# Altium schematic symbol library HEIMDALL-DEVPICKIT-V2.1.SCHLIB: 18 symbols
Pins are listed as number, name and electrical type; pins without a type are passive.

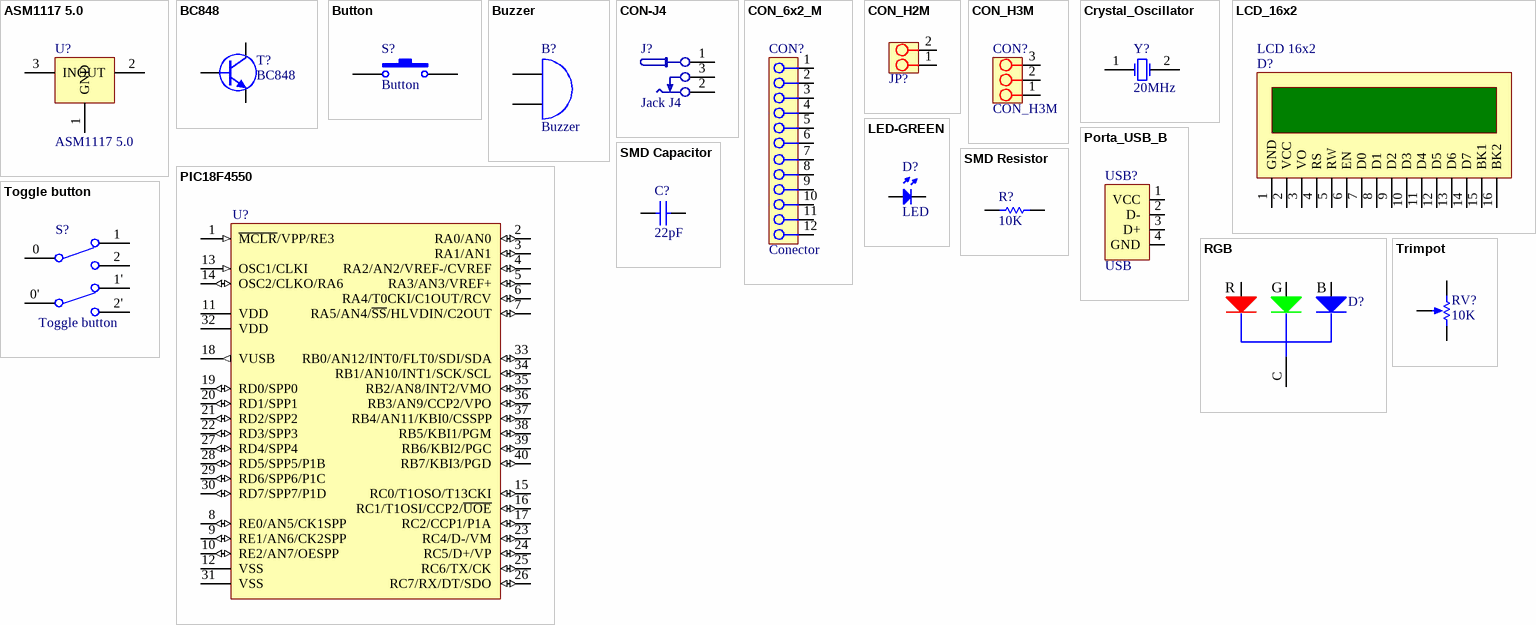
[diagram p0: symbols ASM1117 5.0 to Trimpot]

## ASM1117 5.0
designator U?
LOW DROPOUT VOLTAGE REGULATOR; ComponentLink1Description: ASM1117 5.0; ComponentLink1URL: https://pdf1.alldatasheet.com/datasheet-pdf/view/1137421/ARTSCHIP/AMS1117-1.5.html
footprint ASM1117 5.0
pins: 1 GND, 2 OUT, 3 IN

## BC848
designator T?
NPN Epitaxial Silicon Transistor.; Manufacturer: ON Semiconductor; Manufacturer Part Number: BC848BLT3G; Collector Emitter Voltage (VCEO): 30V; Max Power Dissipation: 300mW; Frequency: 100MHz; hFE Min: 200; Max Collector Current: 100mA; Emitter Base Voltage (VEBO): 5V; Collector Emitter Saturation Voltage: 600mV; Number of Elements: 1; Element Configuration: Single; Supplier 1: Digi-Key; Stock 1: 29910; Pricing 1: 1=0.12, 10=0.105, 100=0.0572, 500=0.0352, 1000=0.024 (USD); Case/Package: SOT-23-3; Number of Pins: 3; Min Operating Temperature: -55°C; Max Operating Temperature: 150°C; Package Quantity: 10000; Packaging: Tape and Reel; Transition Frequency: 100MHz; Collector Emitter Breakdown Voltage: 30V; Polarity: NPN; Collector Base Voltage (VCBO): 30V; Max Breakdown Voltage: 30V; Power Dissipation: 300mW; Gain Bandwidth Product: 100MHz; Voltage Rating (DC): 30V; Current Rating: 100mA; Radiation Hardening: No; Lead Free: Lead Free; Supplier Part Number 1: BC848BLT3GOSDKR-ND
footprint SOT-23
pins: 1 C, 2 B, 3 E

## Button
designator S?
Tactil Switch; Manufacturer: Panasonic; Manufacturer Part Number: EVQ-PAC07K; Mechanical Life: 100000Cycles; Max Current Rating: 20mA; Operating Force: 1N; Throw Configuration: SPST; Voltage Rating (DC): 15V; Contact Resistance: 50mR; Illumination Type: Non-Illuminated,Illuminated; Switch Travel: 0.25mm; Switch Function: Off-Mom; Actuator Length: 3.1mm; Size: 6x6x5mm; Supplier 1: Digi-Key; Stock 1: 36840; Pricing 1: 1=0.2, 10=0.196, 25=0.1896, 50=0.1828, 100=0.1726, 250=0.1625, 500=0.1557, 1000=0.1185, 5000=0.0982 (USD); Mount: Through Hole; Colour: Black; Contact Plating: Gold,Silver; Min Operating Temperature: -20°C; Max Operating Temperature: 70°C; Packaging: Bulk; Max Voltage Rating (DC): 15V; Current Rating: 20mA; Package Quantity: 500; Termination: PC Pins; Electrical Life: 100000Cycles; Contact Current Rating: 20mA; Orientation: Straight; Length: 6mm; Height: 7mm; Width: 6mm; Depth: 7.8mm; Radiation Hardening: No; REACH SVHC: Unknown; Lead Free: Lead Free; ComponentLink1URL: https://datasheet.ciiva.com/17027/70270700-17027701.pdf; ComponentLink1Description: https://datasheet.ciiva.com/17027/70270700-17027701.pdf; ComponentLink2URL: https://datasheet.ciiva.com/15184/getdatasheetpartid-174669-15184695.pdf; ComponentLink2Description: https://datasheet.ciiva.com/15184/getdatasheetpartid-174669-15184695.pdf; ComponentLink3URL: https://datasheet.ciiva.com/8166/atk0000ce10-8166344.pdf; ComponentLink3Description: https://datasheet.ciiva.com/8166/atk0000ce10-8166344.pdf; ComponentLink4URL: https://datasheet.ciiva.com/30262/36atk0000ce10-30262264.pdf; ComponentLink4Description: https://datasheet.ciiva.com/30262/36atk0000ce10-30262264.pdf; ComponentLink5URL: https://datasheet.ciiva.com/16695/atk0000ce10-16695929.pdf; ComponentLink5Description: https://datasheet.ciiva.com/16695/atk0000ce10-16695929.pdf; ComponentLink6URL: https://datasheet.ciiva.com/24076/atk0000ce10-33274-24076314.pdf; ComponentLink6Description: https://datasheet.ciiva.com/24076/atk0000ce10-33274-24076314.pdf; ComponentLink7URL: https://datasheet.ciiva.com/7645/atk0000ce10-7645644.pdf; ComponentLink7Description: https://datasheet.ciiva.com/7645/atk0000ce10-7645644.pdf; ComponentLink8URL: https://datasheet.ciiva.com/2899/atk0000ce10-2899661.pdf; ComponentLink8Description: https://datasheet.ciiva.com/2899/atk0000ce10-2899661.pdf; Supplier Part Number 1: P8011S-ND
footprint BUTTON
pins: 1, 2

## Buzzer
designator B?
Piezoeletric; Manufacturer: Projects Unlimited; Manufacturer Part Number: AT-1224-TWT-5V-2-R; Voltage Rating: 5V; Frequency: 2.4kHz; Operating Supply Current: 40mA; Sensing Method: Magnetic; Supplier 1: Digi-Key; Stock 1: 74074; Pricing 1: 1=0.6, 10=0.478, 25=0.436, 50=0.406, 100=0.38, 250=0.346, 500=0.324, 1000=0.302, 5000=0.256 (USD); Mount: Through Hole; Contact Plating: Tin; Min Operating Temperature: -30°C; Max Operating Temperature: 70°C; Packaging: Tray; Termination: PC Pins; Max Supply Current: 40mA; Diameter: 12mm; Height: 9mm; ComponentLink1URL: http://www.mouser.com/ds/2/334/AT-1224-TWT-5V-2-R-532234.pdf; ComponentLink1Description: http://www.mouser.com/ds/2/334/AT-1224-TWT-5V-2-R-532234.pdf; ComponentLink2URL: http://www.puiaudio.com/pdf/AT-1224-TWT-5V-2-R.pdf; ComponentLink2Description: http://www.puiaudio.com/pdf/AT-1224-TWT-5V-2-R.pdf; Supplier Part Number 1: 668-1470-ND
footprint Buzzer
pins: 1 A, 2 B

## CON-J4
designator J?, comment Jack J4
Conector DC Power Jack J4 2.5mm; Manufacturer: CUI; Manufacturer Part Number: PJ-102BH; Gender: Male; Shielding: Unshielded; Current Rating: 5A; Voltage Rating: 24V; Insulation Resistance: 100MR; Number of Conductors: 2; Supplier 1: Digi-Key; Stock 1: 16445; Pricing 1: 1=0.76, 10=0.708, 25=0.6372, 50=0.5664, 100=0.5428, 250=0.4956, 500=0.472, 1000=0.3894, 2500=0.354 (USD); Mount: Through Hole; Colour: Black; Contact Material: Copper; Contact Plating: Nickel; Housing Colour: Black; Housing Material: Thermoplastic; Min Operating Temperature: -25°C; Max Operating Temperature: 85°C; Package Quantity: 280; Termination: Through Hole; Connector Type: Jack; Contact Gender: Male; Orientation: Horizontal; Packaging: Bulk; Diameter: 2.5mm; Lead Free: Lead Free; Flammability Rating: UL94 V-0; ComponentLink1URL: http://www.mouser.com/ds/2/670/PJ-102BH-524153.pdf; ComponentLink1Description: http://www.mouser.com/ds/2/670/PJ-102BH-524153.pdf; ComponentLink2URL: http://www.cui.com/Product/Resource/FuturePDF/PJ-102BH.pdf; ComponentLink2Description: http://www.cui.com/Product/Resource/FuturePDF/PJ-102BH.pdf; ComponentLink3URL: http://www.cui.com/product/resource/digikeypdf/pj-102bh.pdf; ComponentLink3Description: http://www.cui.com/product/resource/digikeypdf/pj-102bh.pdf; Supplier Part Number 1: CP-102BH-ND
footprint J4
pins: 1, 2, 3

## CON_6x2_M
designator CON?, comment Conector
footprint CON_6x2_M
pins: 1, 2, 3, 4, 5, 6, 7, 8, 9, 10, 11, 12

## CON_H2M
designator JP?  (value not drawn)
Molex M 2T; Manufacturer: Harwin; Manufacturer Part Number: M20-9990246; Contact Resistance: 30mR; Max Current Rating: 3A; Number of Positions: 2; Gender: Male; Connector Type: Male Pin; Insulation Resistance: 10GR; Voltage Rating (AC): 750V; Pitch: 2.54mm; Supplier 1: Digi-Key; Stock 1: 53821; Pricing 1: 1=0.11, 10=0.099, 100=0.0609, 500=0.0504, 1000=0.0441, 5000=0.0378, 10000=0.0368 (USD); Mount: Through Hole; Case/Package: SIL; Colour: Black; Housing Colour: Black; Housing Material: Nylon; Contact Plating: Tin; Contact Material: Bronze,Brass; Min Operating Temperature: -40°C; Max Operating Temperature: 105°C; Package Quantity: 1000; Packaging: Bulk; Termination: Solder; Number of Rows: 1; Number of Contacts: 2; Orientation: Straight; Current Rating: 3A; Length: 5.08mm; Depth: 2.54mm; Contact Mating Length: 0.24inch; Radiation Hardening: No; REACH SVHC: No SVHC; ComponentLink1URL: https://datasheet.ciiva.com/8046/315376-8046930.pdf; ComponentLink1Description: https://datasheet.ciiva.com/8046/315376-8046930.pdf; ComponentLink2URL: https://datasheet.ciiva.com/6833/m20-999-6833368.pdf; ComponentLink2Description: https://datasheet.ciiva.com/6833/m20-999-6833368.pdf; ComponentLink3URL: https://datasheet.ciiva.com/11745/0900766b81034e61-11745755.pdf; ComponentLink3Description: https://datasheet.ciiva.com/11745/0900766b81034e61-11745755.pdf; ComponentLink4URL: https://datasheet.ciiva.com/22660/1830818-22660571.pdf; ComponentLink4Description: https://datasheet.ciiva.com/22660/1830818-22660571.pdf; ComponentLink5URL: https://datasheet.ciiva.com/26852/getdatasheetpartid-384170-26852203.pdf; ComponentLink5Description: https://datasheet.ciiva.com/26852/getdatasheetpartid-384170-26852203.pdf; Supplier Part Number 1: 952-2262-ND
footprint Header2-M
pins: 1, 2

## CON_H3M
designator CON?
Molex M 3T
footprint CON_3P_M
pins: 1, 2, 3

## Crystal_Oscillator
designator Y?, comment 20MHz
Quartz Crystal; Manufacturer: ECS International; Manufacturer Part Number: ECS-200-18-4XEN; Frequency Tolerance: 30ppm; Load Capacitance: 18pF; ESR (Equivalent Series Resistance): 30R; Frequency Stability: 50ppm; Supplier 1: Digi-Key; Stock 1: 3788; Pricing 1: 1=0.66, 10=0.55, 50=0.495, 100=0.44, 500=0.418, 1000=0.352, 2500=0.33, 5000=0.319, 10000=0.308 (USD); Mount: Through Hole; Min Operating Temperature: -40°C; Max Operating Temperature: 85°C; Package Quantity: 200; Frequency: 20MHz; Packaging: Bulk; Tolerance: 30ppm; Termination: Radial; Length: 0.447inch; Height: 0.138inch; Width: 0.183inch; ComponentLink1URL: https://datasheet.ciiva.com/853/hc-49usx-853271.pdf; ComponentLink1Description: https://datasheet.ciiva.com/853/hc-49usx-853271.pdf; Supplier Part Number 1: XC1723-ND
footprint CRYSTAL
pins: 1 OSC1, 2 OSC2

## LCD_16x2
designator D?, comment LCD 16x2
Liquid Crystal Display 16x2; Manufacturer: Lumex; Manufacturer Part Number: LCM-S01602DSR/A; Operating Supply Voltage: 5V; Interface: Parallel; Number of Characters: 32; Character Width: 2.96mm; Character Height: 5.56mm; Viewing Area (height): 16mm; Current Rating: 3mA; Viewing Area (width): 66mm; Background Colour: Green; Number Of Characters Per Row: 16; Supplier 1: Digi-Key; Stock 1: 2202; Pricing 1: 1=11.92, 10=11.417, 25=8.8796, 100=7.611, 250=7.2304, 500=6.8499, 1000=6.4694 (USD); Case/Package: Module; Weight: 0.0025lb; Min Operating Temperature: 0°C; Max Operating Temperature: 50°C; Package Quantity: 45; Packaging: Bulk; Voltage Rating: 5V; Length: 0.25inch; Height: 36mm; Width: 80mm; REACH SVHC: No SVHC; Lead Free: Lead Free; ComponentLink1URL: https://datasheet.ciiva.com/2102/lcm-s01602dsr+a-2102193.pdf; ComponentLink1Description: https://datasheet.ciiva.com/2102/lcm-s01602dsr+a-2102193.pdf; ComponentLink2URL: https://datasheet.ciiva.com/1314/710199-1314420.pdf; ComponentLink2Description: https://datasheet.ciiva.com/1314/710199-1314420.pdf; Supplier Part Number 1: 67-1768-ND
footprint LCD_16X2
footprint LCD_16X2_2
pins: 1 GND, 2 VCC, 3 VO, 4 RS, 5 RW, 6 EN, 7 D0, 8 D1, 9 D2, 10 D3, 11 D4, 12 D5, 13 D6, 14 D7, 15 BK1, 16 BK2

## LED-GREEN
designator D?, comment LED
Light Emissor Diode - 5mm; Manufacturer: Kingbright; Manufacturer Part Number: WP7113LGD; Colour: Green; Lens Style: Round,Diffused,Tinted; Luminous Intensity: 2mcd; Viewing Angle: 30°; Forward Voltage: 1.9V; Forward Current: 25mA; Dominant Wavelength: 568nm; Test Current: 2mA; Supplier 1: Digi-Key; Stock 1: 193634; Pricing 1: 1=0.48, 10=0.342, 25=0.2624, 100=0.171, 250=0.1254, 500=0.1064, 1000=0.0874, 2500=0.076, 5000=0.0684 (USD); Mount: Through Hole; Case/Package: Radial; Lens Colour: Green; Min Operating Temperature: -40°C; Max Operating Temperature: 85°C; Illumination Colour: Green; Packaging: Bulk; Package Quantity: 1000; Height: 8.6mm; Lead Free: Lead Free; ComponentLink1URL: https://datasheet.ciiva.com/16510/wp7113lgd-16510240.pdf; ComponentLink1Description: https://datasheet.ciiva.com/16510/wp7113lgd-16510240.pdf; ComponentLink2URL: https://datasheet.ciiva.com/4692/wp7113lgd-83708-4692822.pdf; ComponentLink2Description: https://datasheet.ciiva.com/4692/wp7113lgd-83708-4692822.pdf; ComponentLink3URL: https://datasheet.ciiva.com/14604/70062982-14604412.pdf; ComponentLink3Description: https://datasheet.ciiva.com/14604/70062982-14604412.pdf; ComponentLink4URL: https://datasheet.ciiva.com/2114/wp7113lgd-2114397.pdf; ComponentLink4Description: https://datasheet.ciiva.com/2114/wp7113lgd-2114397.pdf; Supplier Part Number 1: 754-1265-ND
footprint LED_GREEN
pins: A, K

## PIC18F4550
designator U?  (value not drawn)
High Performance, Enhanced Flash, USB Microcontroller with nanoWatt Technology, 32K Flash, 40-Pin PDIP, Industrial Temperature Range; Manufacturer: Microchip; Manufacturer Part Number: PIC18F4550-I/P; Interface: I2C,SPI,USB,UART,USART; Data Bus Width: 8b; Number of Bits: 8; Core Architecture: PIC; Max Power Dissipation: 1W; Number of I/Os: 35; Number of Timers/Counters: 4; RAM Size: 2KB; Max Supply Voltage: 5.5V; Min Supply Voltage: 4.2V; Number of ADC Channels: 13; Number of PWM Channels: 5; Frequency: 48MHz; Density: 32KB; Number of UART Channels: 1; Oscillator Type: Internal; Watchdog Timer: Yes; Nominal Supply Current: 1.1mA; Access Time: 48us; Peripherals: Brown-out Detect/Reset,POR,PWM,WDT,HLVD,I2C; Supplier 1: Digi-Key; Stock 1: 666; Pricing 1: 1=4.6, 25=4.4908, 100=4.3878 (USD); Mount: Through Hole; Case/Package: PDIP; Number of Pins: 40; Weight: 0.05lb; Min Operating Temperature: -40°C; Max Operating Temperature: 85°C; Package Quantity: 10; Packaging: Rail/Tube; Number of Programmable I/O: 35; Max Frequency: 48MHz; Number of SPI Channels: 1; Number of I2C Channels: 1; Memory Type: FLASH; Number of A/D Converters: 1; Address Bus Width: 8b; Memory Size: 32KB; Length: 53.21mm; Height: 0.195inch; Width: 0.58inch; Radiation Hardening: No; Lead Free: Lead Free; REACH SVHC: No SVHC; ComponentLink1URL: https://datasheet.ciiva.com/19471/2177678-19471492.pdf; ComponentLink1Description: https://datasheet.ciiva.com/19471/2177678-19471492.pdf; ComponentLink2URL: https://datasheet.ciiva.com/16362/filehandler-aspxddocname-en020587-16362390.pdf; ComponentLink2Description: https://datasheet.ciiva.com/16362/filehandler-aspxddocname-en020587-16362390.pdf; ComponentLink3URL: https://datasheet.ciiva.com/1494/39632e-1494503.pdf; ComponentLink3Description: https://datasheet.ciiva.com/1494/39632e-1494503.pdf; ComponentLink4URL: https://datasheet.ciiva.com/9244/39632d-9244680.pdf; ComponentLink4Description: https://datasheet.ciiva.com/9244/39632d-9244680.pdf; ComponentLink5URL: https://datasheet.ciiva.com/7181/720550-7181018.pdf; ComponentLink5Description: https://datasheet.ciiva.com/7181/720550-7181018.pdf; ComponentLink6URL: https://datasheet.ciiva.com/18404/70045698-18404428.pdf; ComponentLink6Description: https://datasheet.ciiva.com/18404/70045698-18404428.pdf; ComponentLink7URL: https://datasheet.ciiva.com/17992/pic18f4550-17992030.pdf; ComponentLink7Description: https://datasheet.ciiva.com/17992/pic18f4550-17992030.pdf; ComponentLink8URL: https://datasheet.ciiva.com/29330/651708-da-01-en-ic-pic-mcu-pic18f4550-i-p-dip-40-mcp-29330715.pdf; ComponentLink8Description: https://datasheet.ciiva.com/29330/651708-da-01-en-ic-pic-mcu-pic18f4550-i-p-dip-40-mcp-29330715.pdf; ComponentLink9URL: https://datasheet.ciiva.com/26816/pic18f4550-i-p-26816637.pdf; ComponentLink9Description: https://datasheet.ciiva.com/26816/pic18f4550-i-p-26816637.pdf; Supplier Part Number 1: PIC18F4550-I/P-ND
footprint DIP40
pins: 1 ~{MCLR}/VPP/RE3 (in), 2 RA0/AN0 (io), 3 RA1/AN1 (io), 4 RA2/AN2/VREF-/CVREF (io), 5 RA3/AN3/VREF+ (io), 6 RA4/T0CKI/C1OUT/RCV (io), 7 RA5/AN4/~{SS}/HLVDIN/C2OUT (io), 8 RE0/AN5/CK1SPP (io), 9 RE1/AN6/CK2SPP (io), 10 RE2/AN7/OESPP (io), 11 VDD (power), 12 VSS (power), 13 OSC1/CLKI (in), 14 OSC2/CLKO/RA6 (io), 15 RC0/T1OSO/T13CKI (io), 16 RC1/T1OSI/CCP2/~{UOE} (io), 17 RC2/CCP1/P1A (io), 18 VUSB (out), 19 RD0/SPP0 (io), 20 RD1/SPP1 (io), 21 RD2/SPP2 (io), 22 RD3/SPP3 (io), 23 RC4/D-/VM (io), 24 RC5/D+/VP (io), 25 RC6/TX/CK (io), 26 RC7/RX/DT/SDO (io), 27 RD4/SPP4 (io), 28 RD5/SPP5/P1B (io), 29 RD6/SPP6/P1C (io), 30 RD7/SPP7/P1D (io), 31 VSS (power), 32 VDD (power), 33 RB0/AN12/INT0/FLT0/SDI/SDA (io), 34 RB1/AN10/INT1/SCK/SCL (io), 35 RB2/AN8/INT2/VMO (io), 36 RB3/AN9/CCP2/VPO (io), 37 RB4/AN11/KBI0/CSSPP (io), 38 RB5/KBI1/PGM (io), 39 RB6/KBI2/PGC (io), 40 RB7/KBI3/PGD (io)

## Porta_USB_B
designator USB?, comment USB
Porta USB / tipo B femea
footprint Porta_USB_B
pins: 1 VCC, 2 D-, 3 D+, 4 GND

## RGB
designator D?, comment Led RGB  (value not drawn)
Led RGB 4 pin Cathode Commom
footprint RGB-5mm
pins: B, C, G, R

## SMD Capacitor
designator C?, comment 22pF
Multilayer Ceramic / Capacitor 0805; ComponentLink1Description: Multilayer Ceramic; ComponentLink1URL: https://eu.mouser.com/datasheet/2/212/KEM_C1062_C0G_FT-CAP_SMD-1101746.pdf
footprint SMD Capacitor
pins: 1, 2

## SMD Resistor
designator R?, comment 10K
SMD Resistor  MCU 0805
footprint SMD Resistor
pins: 1, 2

## Toggle button
designator S?
ComponentLink1Description: datasheet; ComponentLink1URL: https://dznh3ojzb2azq.cloudfront.net/products/Keyswitch/PVA/documents/datasheet.pdf; ComponentLink2Description: buy; ComponentLink2URL: https://www.alibaba.com/product-detail/Latching-7x7mm-Mini-Tactile-Push-Button_60227167979.html
footprint Toggle button
pins: 0, 0', 1, 1', 2, 2'

## Trimpot
designator RV?, comment 10K
TRIMMER 10K OHM 0.5W TH; Manufacturer: Murata; Manufacturer Part Number: PV36W103C01B00; Resistance: 10kR; Tolerance: 10%; Number of Turns: 25; Max Power Dissipation: 500mW; Temperature Coefficient: 100ppm/°C; Pitch: 2.5mm; Supplier 1: Arrow; Stock 1: 0; Pricing 1: 1=0.78 (EUR); Mount: Through Hole; Weight: 1g; Colour: Grey; Min Operating Temperature: -55°C; Max Operating Temperature: 125°C; Packaging: Bulk; Composition: Cermet; Termination: Pin; Power Rating: 500mW; Package Quantity: 50; Taper: Linear; Military Standard: Not; Type: Potentiometer; Length: 9.6mm; Height: 0.394inch; Width: 10mm; Depth: 5mm; Radiation Hardening: No; REACH SVHC: No SVHC; Lead Free: Lead Free; ComponentLink1URL: https://datasheet.ciiva.com/2155/l0060e-2155893.pdf; ComponentLink1Description: https://datasheet.ciiva.com/2155/l0060e-2155893.pdf; ComponentLink2URL: https://datasheet.ciiva.com/27054/1875466-27054391.pdf; ComponentLink2Description: https://datasheet.ciiva.com/27054/1875466-27054391.pdf; ComponentLink3URL: https://datasheet.ciiva.com/11830/0900766b80f10a07-11830940.pdf; ComponentLink3Description: https://datasheet.ciiva.com/11830/0900766b80f10a07-11830940.pdf; ComponentLink4URL: https://datasheet.ciiva.com/16480/r50e-16480015.pdf; ComponentLink4Description: https://datasheet.ciiva.com/16480/r50e-16480015.pdf; ComponentLink5URL: https://datasheet.ciiva.com/26329/422323-da-01-en-cermet-trimmer-pv-36w-10k0-10pr-26329725.pdf; ComponentLink5Description: https://datasheet.ciiva.com/26329/422323-da-01-en-cermet-trimmer-pv-36w-10k0-10pr-26329725.pdf; Supplier Part Number 1: PV36W103C01B00
footprint Trimpot
pins: 1 TOP, 2 TAP, 3 BOT